# EAGLE library part 87758-08_S (library con-molex-milli-grid)
HEADER
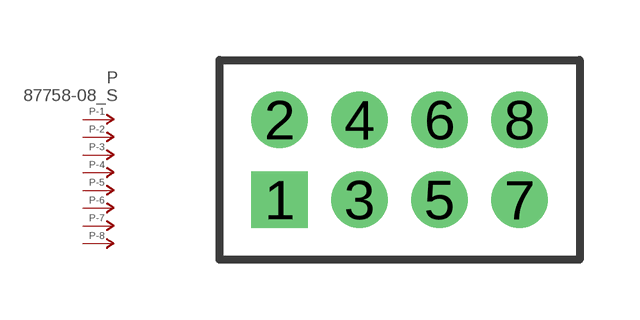
[diagram p336: symbol with the pads of 87758-08; footprint 87758-08]

Designator prefix P; gates -1=P-NV -2=P-N -3=P-N -4=P-N -5=P-N -6=P-N -7=P-N -8=P-N

## 87758-08_S  [87758-08]
1  -1:P  pas
2  -2:P  pas
3  -3:P  pas
4  -4:P  pas
5  -5:P  pas
6  -6:P  pas
7  -7:P  pas
8  -8:P  pas

## Footprint 87758-08 (pad centres in mm)
HEADER Dual Row, Vertical
drill 0.914 square: 1 -3,-1
drill 0.914: 2 -3,1; 3 -1,-1; 4 -1,1; 5 1,-1; 6 1,1; 7 3,-1; 8 3,1